# Altium schematic symbol library Cap.SchLib: 1 symbol
Pins are listed as number, name and electrical type; pins without a type are passive.

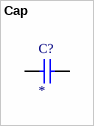
[diagram p0: symbol Cap]

## Cap
designator C?
Capacitor
footprint 0805-CAP
pins: 1, 2